# Altium footprint library Audio_Mini.PcbLib: 24 footprints (part 2 of 2)
Each footprint in its own frame and in the unit in brackets; x right, y up, seen from the top. Pads: shape width x height; smd on the part's side, far side on the other; paste and mask are expansions set on the pad; w line width, h text height; cw(c..) or ccw(c..) is an arc to the next point about the centre after c.
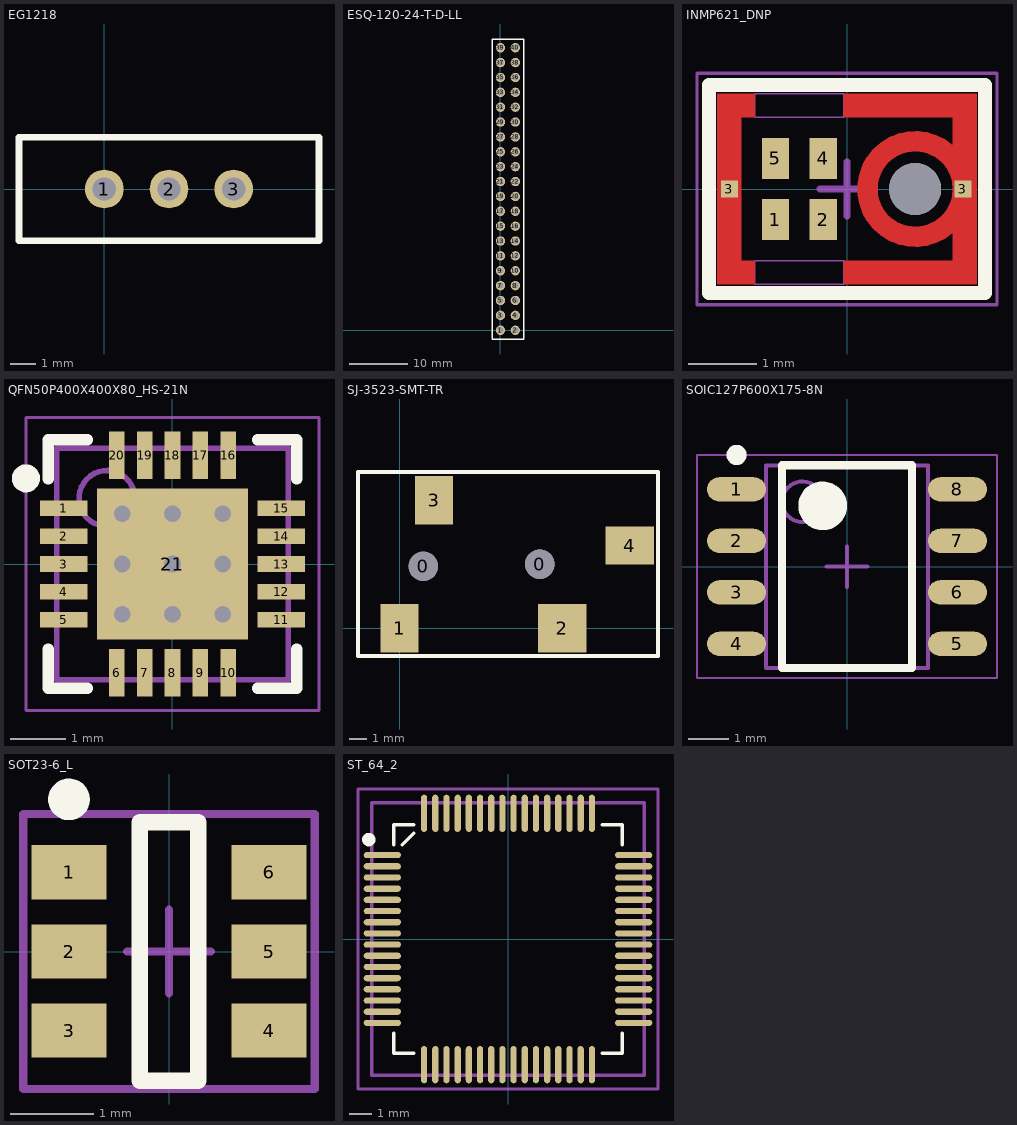
[diagram p1: the footprints below, top view; thin cyan lines are the x and y axes]

## EG1218 [mm] "Slide Switch SPDT Through Hole"
height 5.4
pads (3):
  round 1.5 hole 0.9: 1(0,0) 2(2.5,0) 3(5,0)
Top Overlay:
  lines w0.254: -3.3,-2 -3.3,2 8.3,2 8.3,-2 -3.3,-2
3D body "EG1218.stp": height 7, standoff -5.1, extent -3.35,-1.925 8.25,2.075

## ESQ-120-24-T-D-LL [mm] "2x20 Through Hole Connector, 0.1 inch pitch"
height 23.24
pads (40):
  round 1.6 hole 1.02: 1(0,0) 2(2.54,0) 3(0,2.54) 4(2.54,2.54) 5(0,5.08) 6(2.54,5.08) 7(0,7.62) 8(2.54,7.62) 9(0,10.16) 10(2.54,10.16) 11(0,12.7) 12(2.54,12.7) 13(0,15.24) 14(2.54,15.24) 15(0,17.78) 16(2.54,17.78) 17(0,20.32) 18(2.54,20.32) 19(0,22.86) 20(2.54,22.86) 21(0,25.4) 22(2.54,25.4) 23(0,27.94) 24(2.54,27.94) 25(0,30.48) 26(2.54,30.48) 27(0,33.02) 28(2.54,33.02) 29(0,35.56) 30(2.54,35.56) 31(0,38.1) 32(2.54,38.1) 33(0,40.64) 34(2.54,40.64) 35(0,43.18) 36(2.54,43.18) 37(0,45.72) 38(2.54,45.72) 39(0,48.26) 40(2.54,48.26)
Top Overlay:
  lines w0.254: -1.375,-1.5 3.95,-1.5 3.95,49.75 -1.375,49.75 -1.375,-1.5
Bottom Overlay:
  lines w0.254: -1.375,-1.5 -1.375,49.75 3.95,49.75 3.95,-1.5 -1.375,-1.5
3D body "ESQ-120-24-T-D-LL.stp": height 13.51, standoff -9.73, extent -1.24,-1.625 3.84,49.683

## INMP621_DNP [mm] "Wide Dynamic Range Microphone with PDM Digital Output"
pads (7):
  rect 0.4x0.6 smd paste-0.051 mask+0: 1(-1.05,-0.45) 2(-0.35,-0.45) 4(-0.35,0.45) 5(-1.05,0.45)
  rect 0.25x0.25 smd paste-1 mask+0: 3(-1.725,0) 3(1.7,0)
  round 0.762 hole 0.762 unplated paste+0 mask+0: ""(1,0)
Top Layer:
  circle w0.3: c1,0 r0.7
  region: -1.9,-1.4 -1.9,1.4 -1.35,1.4 -1.35,1.05 -1.55,1.05 -1.55,-1.05 -1.35,-1.05 -1.35,-1.4
  region: -0.05,1.05 -0.05,1.4 1.9,1.4 1.9,-1.4 -0.05,-1.4 -0.05,-1.05 1.55,-1.05 1.55,1.05
Top Overlay:
  lines w0.2: -2.025,-1.525 -2.025,1.525 2.025,1.525 2.025,-1.525 -2.025,-1.525
Top Paste:
  lines w0.2: 0.331,-0.206 ccw(c1,0) 1.332,-0.616 ; 0.331,0.206 cw(c1,0) 1.332,0.616
Mechanical 15:
  lines w0.02: -1.35,-1.4 -0.05,-1.4 -0.05,-1.05 -1.35,-1.05 -1.35,-1.4 ; -1.35,1.05 -0.05,1.05 -0.05,1.4 -1.35,1.4 -1.35,1.05
  lines w0.05: -2.2,-1.7 -2.2,1.7 2.2,1.7 2.2,-1.7 -2.2,-1.7
  lines w0.1: -0.4,0 0.4,0 ; 0,-0.4 0,0.4
  text "No Exposed / Copper" at -1.175,-1.4 h0.17
  text "No Exposed / Copper" at -1.175,1.05 h0.17

## QFN50P400X400X80_HS-21N [mm] "QFN, 20-Leads, Body 4.00x4.00mm, Pitch 0.50mm, Thermal Pad 2.70x2.70mm, IPC Medium Density"
height 0.8
pads (21):
  rect 0.85x0.28 smd paste-0.05 mask+0.07: 1(-1.95,1) 2(-1.95,0.5) 3(-1.95,0) 4(-1.95,-0.5) 5(-1.95,-1) 11(1.95,-1) 12(1.95,-0.5) 13(1.95,0) 14(1.95,0.5) 15(1.95,1)
  rect 0.28x0.85 smd paste-0.05 mask+0.07: 6(-1,-1.95) 7(-0.5,-1.95) 8(0,-1.95) 9(0.5,-1.95) 10(1,-1.95) 16(1,1.95) 17(0.5,1.95) 18(0,1.95) 19(-0.5,1.95) 20(-1,1.95)
  rect 2.7x2.7 smd paste-1.35 mask+0.07: 21(0,0)
via 0,0 diameter 0.61 hole 0.3
via -0.9,0 diameter 0.61 hole 0.3
via -0.9,0.9 diameter 0.61 hole 0.3
via 0,0.9 diameter 0.61 hole 0.3
via 0.9,0.9 diameter 0.61 hole 0.3
via 0.9,0 diameter 0.61 hole 0.3
via 0.9,-0.9 diameter 0.61 hole 0.3
via 0,-0.9 diameter 0.61 hole 0.3
via -0.9,-0.9 diameter 0.61 hole 0.3
Top Overlay:
  circle w0.25: c-2.625,1.534 r0.125
  lines w0.2: -2.225,-1.525 -2.225,-2.225 -1.525,-2.225 ; -2.225,1.525 -2.225,2.225 -1.525,2.225 ; 1.525,-2.225 2.225,-2.225 2.225,-1.525 ; 1.525,2.225 2.225,2.225 2.225,1.525
Top Paste:
  rectangle: 0.15,0.15 1.25,1.25
  rectangle: 0.15,-1.25 1.25,-0.15
  rectangle: -1.25,0.15 -0.15,1.25
  rectangle: -1.25,-1.25 -0.15,-0.15
Mechanical 13:
  circle w0.1: c-1.175,1.175 r0.5
  lines w0.1: -2.075,-2.075 2.075,-2.075 2.075,2.075 -2.075,2.075 -2.075,-2.075
Mechanical 15:
  lines w0.05: -2.625,-2.625 2.625,-2.625 2.625,2.625 -2.625,2.625 -2.625,-2.625
  lines w0.1: -0.5,0 0.5,0 ; 0,-0.5 0,0.5
3D body "QFN50P400X400X80_HS-21N.step": height 0.8, standoff 0, extent -2.076,-2.076 2.076,2.076

## SJ-3523-SMT-TR [mm] "Female 3.5mm audio jack"
height 5
pads (6):
  round 1.7 hole 1.7 unplated: 0(1.375,3.575) 0(8.1,3.7)
  rect 2.2x2.8 smd: 1(0,0) 3(2,7.4)
  rect 2.8x2.8 smd: 2(9.4,0)
  rect 2.8x2.2 smd: 4(13.3,4.775)
Top Overlay:
  lines w0.254: -2.4,-1.6 14.925,-1.6 14.925,9.025 -2.4,9.025 -2.4,-1.6
3D body "sj-3523-smt.stp": height 5, standoff -0.8, extent -4.875,-0.875 12.125,8.125

## SOIC127P600X175-8N [mm] "SOIC, 8-Leads, Body 4.90x3.90mm, Pitch 1.27mm, IPC Medium Density"
height 1.75
pads (8):
  oval 1.45x0.6 smd: 1(-2.725,1.905) 2(-2.725,0.635) 3(-2.725,-0.635) 4(-2.725,-1.905) 5(2.725,-1.905) 6(2.725,-0.635) 7(2.725,0.635) 8(2.725,1.905)
Top Overlay:
  circle w0.6: c-0.6,1.5 r0.3
  circle w0.25: c-2.725,2.755 r0.125
  lines w0.2: -1.6,-2.5 1.6,-2.5 1.6,2.5 -1.6,2.5 -1.6,-2.5
Mechanical 13:
  circle w0.1: c-1.1,1.6 r0.5
  lines w0.1: -2,-2.5 2,-2.5 2,2.5 -2,2.5 -2,-2.5
Mechanical 15:
  lines w0.05: -3.7,-2.75 3.7,-2.75 3.7,2.75 -3.7,2.75 -3.7,-2.75
  lines w0.1: -0.5,0 0.5,0 ; 0,-0.5 0,0.5
3D body "SOIC127P600X175-8N.step": height 1.75, standoff 0, extent -3,-2.5 3,2.5

## SOT23-6_L [mm] "SOT23, 6-Leads, Body 2.9x1.6mm, Pitch 0.95mm, Lead Span 2.7mm, IPC High Density"
height 1.45
pads (6):
  rect 0.9x0.65 smd mask+0.051: 1(-1.2,0.95) 2(-1.2,0) 3(-1.2,-0.95) 4(1.2,-0.95) 5(1.2,0) 6(1.2,0.95)
Top Overlay:
  circle w0.25: c-1.2,1.825 r0.125
  lines w0.2: -0.35,-1.55 0.35,-1.55 0.35,1.55 -0.35,1.55 -0.35,-1.55
Mechanical 15:
  lines w0.1: -0.5,0 0.5,0 ; 0,-0.5 0,0.5 ; -1.75,-1.65 -1.75,1.65 1.75,1.65 1.75,-1.65 -1.75,-1.65
3D body "User Library-sot236.STEP": height 1, standoff 0, extent -1.17,-1.46 1.17,1.46

## ST_64_2 [mil]
pads (64):
  oval 65.5x11 smd mask+1.97: 1(-221.25,147.64) 2(-221.25,127.95) 3(-221.25,108.27) 4(-221.25,88.58) 5(-221.25,68.9) 6(-221.25,49.21) 7(-221.25,29.53) 8(-221.25,9.84) 9(-221.25,-9.84) 10(-221.25,-29.53) 11(-221.25,-49.21) 12(-221.25,-68.9) 13(-221.25,-88.58) 14(-221.25,-108.27) 15(-221.25,-127.95) 16(-221.25,-147.64) 33(221.25,-147.64) 34(221.25,-127.95) 35(221.25,-108.27) 36(221.25,-88.58) 37(221.25,-68.9) 38(221.25,-49.21) 39(221.25,-29.53) 40(221.25,-9.84) 41(221.25,9.84) 42(221.25,29.53) 43(221.25,49.21) 44(221.25,68.9) 45(221.25,88.58) 46(221.25,108.27) 47(221.25,127.95) 48(221.25,147.64)
  oval 11x65.5 smd mask+1.97: 17(-147.64,-221.25) 18(-127.95,-221.25) 19(-108.27,-221.25) 20(-88.58,-221.25) 21(-68.9,-221.25) 22(-49.21,-221.25) 23(-29.53,-221.25) 24(-9.84,-221.25) 25(9.84,-221.25) 26(29.53,-221.25) 27(49.21,-221.25) 28(68.9,-221.25) 29(88.58,-221.25) 30(108.27,-221.25) 31(127.95,-221.25) 32(147.64,-221.25) 49(147.64,221.25) 50(127.95,221.25) 51(108.27,221.25) 52(88.58,221.25) 53(68.9,221.25) 54(49.21,221.25) 55(29.53,221.25) 56(9.84,221.25) 57(-9.84,221.25) 58(-29.53,221.25) 59(-49.21,221.25) 60(-68.9,221.25) 61(-88.58,221.25) 62(-108.27,221.25) 63(-127.95,221.25) 64(-147.64,221.25)
Top Overlay:
  circle w11.81: c-245,175 r5.91
  lines w6: -201,-166.14 -201,-201 -166.14,-201 ; -201,166.14 -201,201 -166.14,201 ; -186.09,165.91 -165.91,186.09 ; 166.14,-201 201,-201 201,-166.14 ; 166.14,201 201,201 201,166.14
Mechanical 13:
  lines w6: -239.99,-240 240.01,-240 240.01,240 -239.99,240 -239.99,-240
Mechanical 15:
  lines w6: -264,-264 -264,264 264,264 264,-264 -264,-264
3D body "ST_64_2.stp": height 63.1, standoff 0, extent -239.99,-240 240.01,240